# Altium schematic symbol library 二极管.SchLib: 8 symbols
Pins are listed as number, name and electrical type; pins without a type are passive.

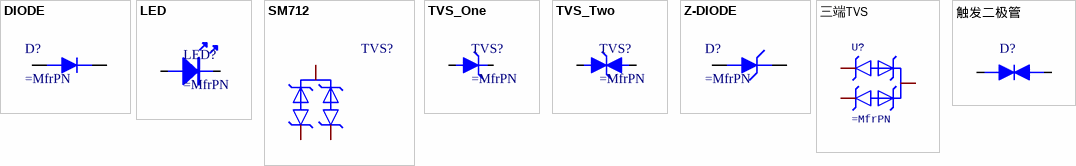
[diagram p0: symbols DIODE to 触发二极管]

## DIODE
designator D?
pins: 1, 2

## LED
designator LED?
pins: 1, 2

## SM712
designator TVS?
pins: 1, 2, 3

## TVS_One
designator TVS?
pins: 1, 2

## TVS_Two
designator TVS?
pins: 1, 2

## Z-DIODE
designator D?
pins: 1, 2

## 三端TVS
designator U?
pins: 1, 2, 3

## 触发二极管
designator D?
pins: 1, 2